# Altium schematic symbol library SCH - OPAMP - LM339BIDR.Schlib: 1 symbol
Pins are listed as number, name and electrical type; pins without a type are passive.

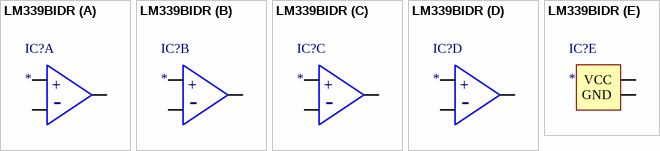
[diagram p0: symbol LM339BIDR]

## LM339BIDR
designator IC?
part A pins: 1, 6, 7
part B pins: 2, 4, 5
part C pins: 8, 9, 14
part D pins: 10, 11, 13
part E pins: 3 VCC, 12 GND
part A text: +; -
part B text: +; -
part C text: +; -
part D text: +; -